# Altium integrated library Infineon_Power_IGBT.IntLib: 226 symbols (part 2 of 8)
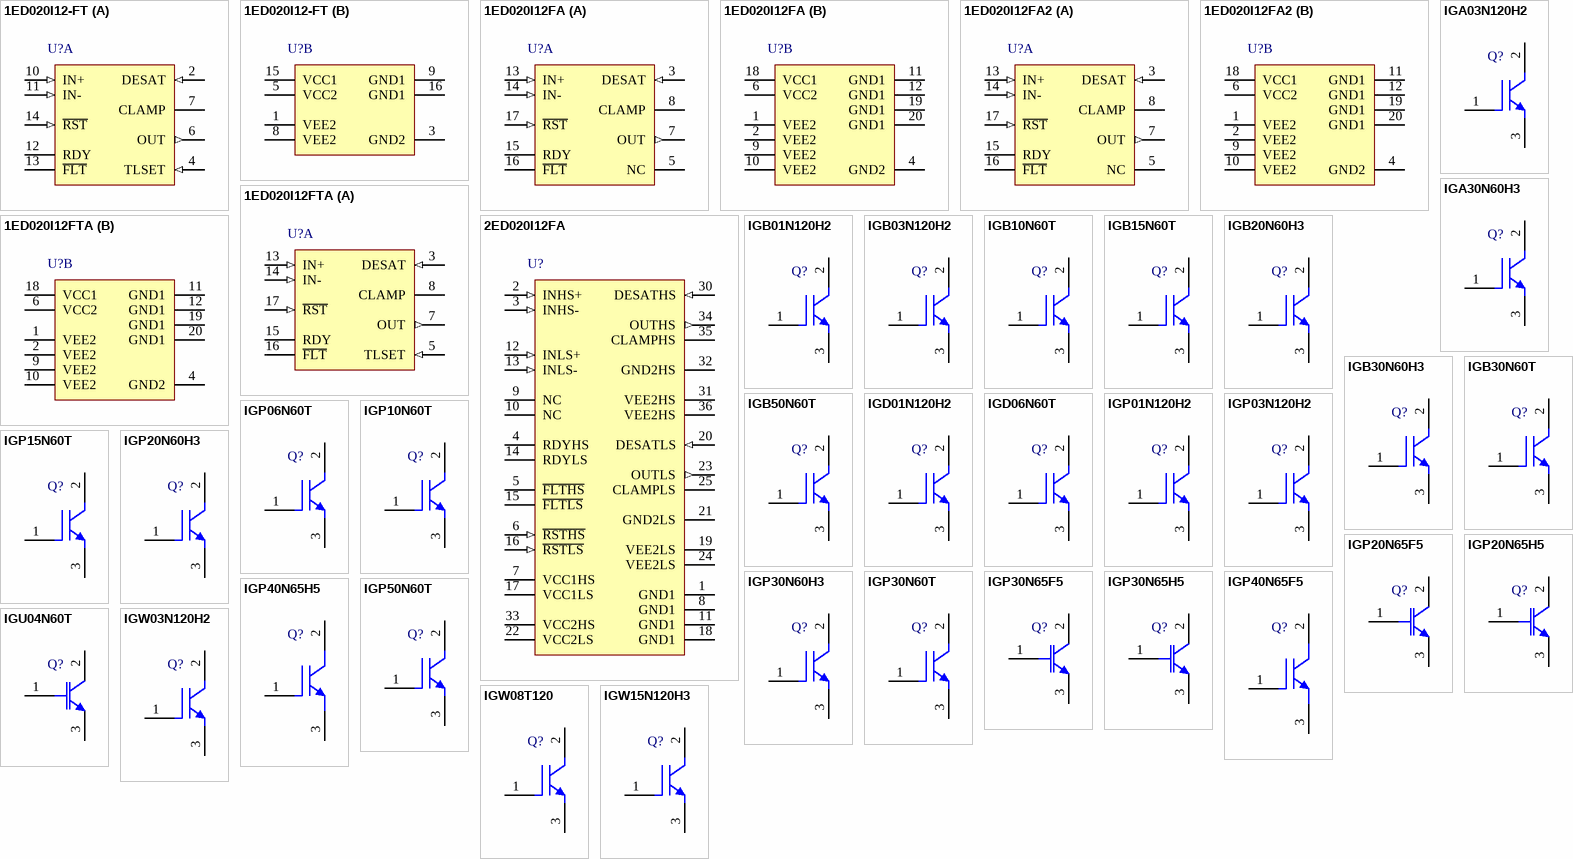
[diagram p6: symbols 1ED020I12-FT to IGW15N120H3]

## IGP50N60T
designator Q?
Low Loss IGBT in TrenchStop and Fieldstop Technology, PG-TO220-3-1, Tube, Green; Manufacturer: Infineon; PartNumber: IGP50N60T; Green: TRUE; IC(max) @ 100 degC: 50 A; IC(max) @ 25 degC: 100 A; Switching Frequency: TRENCHSTOP 2-20kHz; VCE (max): 600 V; VCE(sat) (typ): 1.5 V; DatasheetVersion: Rev. 2.6; PackageVersion: Jul-12; PackageReference: PG-TO220-3-1; PackageDescription: 3-Pin Plastic (Green) Transistor Single Outline Package, 10 x 9.25 mm Body, 2.54 mm Pitch; Supplier 1: Mouser; Supplier Part Number 1: 726-IGP50N60T; Supplier 2: Newark; Supplier Part Number 2: 13T9414; Supplier 3: Farnell; Supplier Part Number 3: 1832355; Supplier 4: Digi-Key; Supplier Part Number 4: IGP50N60T-ND; Halogen-free: TRUE; Packing: Tube; Mounting Technology: Through Hole; ComponentLink1Description: Manufacturer URL; ComponentLink1URL: http://www.infineon.com/; ComponentLink2Description: Datasheet; ComponentLink2URL: http://www.infineon.com/dgdl/IGP_W50N60T_Rev2_6G.pdf?folderId=db3a3043156fd5730115f56849b61941&fileId=db3a30432313ff5e0123b856d0d278c6; ComponentLink3Description: Package Specification; ComponentLink3URL: http://www.infineon.com/dgdl/BTS117_DS_14.pdf?folderId=db3a30431400ef68011421b54e2e0564&fileId=db3a30433a747525013abff8302d549c&location=en.Products.Automotive_ICs.Smart_High-_and_Low-Side_Switches.HITFET___TEMPFET__-_Smart_Low-Side_Switches.DATASHEET.BTS117_DS_14.pdf
footprint INF-PG-TO220-3-1 (FM, 3-Leads, Body 10x4.4mm, Pitch 2.54mm)
pins: 1 G, 2 C, 3 E

## IGU04N60T
designator Q?
Low Loss IGBT: IGBT in TRENCHSTOP(TM) Technology, 600 V VCE, -40 to 175 degC, PG-TO251-3, Tube, Green; Manufacturer: Infineon; PartNumber: IGU04N60T; Eoff (typ): 0.084 mJ; Eon (typ): 0.061 mJ; IC(max) @ 100degrees: 4 A; IC(max) @ 25degrees: 8 A; ICpuls (max): 12 A; P tot (max): 42 W; QGate (typ): 27 nC; td(off) (typ): 164 ns; td(on) (typ): 14 ns; tf (typ): 43 ns; tr (typ): 7 ns; VCE (max): 600 V; VCE(sat) (typ): 1.5 V; DatasheetVersion: Rev. 2.0; PackageReference: PG-TO251-3-21; PackageDescription: 3-Pin Plastic (Green) Transistor Single Outline Package, 6.604 x 2.286 mm Body, 2.286 mm Pitch; Supplier 1: Mouser; Supplier Part Number 1: N/A; Halogen-free: TRUE; Packing: Tube; Mounting Technology: Through Hole; ComponentLink1Description: Manufacturer URL; ComponentLink1URL: http://www.infineon.com/; ComponentLink2Description: Datasheet; ComponentLink2URL: http://www.infineon.com/dgdl/IGU04N60T_2_0.pdf?folderId=db3a3043156fd5730115f56849b61941&fileId=db3a304341e0aed00141e47349ff51f4; ComponentLink3Description: Package Specification; ComponentLink3URL: http://www.infineon.com/dgdl/PG-TO251-3-21-Package_Overview.pdf?folderId=db3a30431c69a49d011cd6eee42f1311&fileId=db3a30431c69a49d011cd71b11e9132f
footprint INF-PG-TO251-3-21 (FM, 3-Leads, Body 6.75x2.45mm, Pitch 2.286mm)
pins: 1 G, 2 C, 3 E

## IGW03N120H2
designator Q?
High Speed 2-Technology IGBT, PG-TO247-3, Tube, Green; Manufacturer: Infineon; PartNumber: IGW03N120H2; Green: TRUE; IC(max) @ 100 degC: 3.9 A; IC(max) @ 25 degC: 9.6 A; Switching Frequency: HighSpeed2 30-100 kHz; VCE (max): 1,200 V; VCE(sat) (typ): 2.2 V; DatasheetVersion: Rev. 2.6; PackageVersion: Rev. 03, 12/2007; PackageReference: PG-TO247-3; PackageDescription: 3-Pin Plastic (Green) Transistor Single Outline Package, Body 20.96 x 15.865 mm, Pitch 5.44 mm; Supplier 1: Mouser; Supplier Part Number 1: 726-IGW03N120H2; Supplier 2: Farnell; Supplier Part Number 2: 1471730; Supplier 3: Digi-Key; Supplier Part Number 3: IGW03N120H2-ND; Halogen-free: FALSE; Packing: Tube; Mounting Technology: Through Hole; ComponentLink1Description: Manufacturer URL; ComponentLink1URL: http://www.infineon.com/; ComponentLink2Description: Datasheet; ComponentLink2URL: http://www.infineon.com/dgdl/IGP_W03N120H2_Rev2_6.pdf?folderId=db3a304412b407950112b408e8c90004&fileId=db3a304412b407950112b427b1713c9d; ComponentLink3Description: Package Specification; ComponentLink3URL: http://www.infineon.com/dgdl/IKW15T120_Rev2G_3.pdf?folderId=db3a304412b407950112b408e8c90004&fileId=db3a304412b407950112b42896343e2d&location=en.Products.IGBTs.IGBT_with_Anti-Parallel_Diode.TRENCHSTOP__IGBT_for_Hard_Switching.DATASHEET.IKW15T120_Rev2G_3.pdf
footprint INF-PG-TO247-3_V (FM, 3-Leads, Body 20.96x15.865mm, Pitch 5.44mm)
pins: 1 G, 2 C, 3 E

## IGW08T120
designator Q?
Low Loss IGBT in TrenchStop and Fieldstop Technology, PG-TO247-3-44, Tube, Green; Manufacturer: Infineon; PartNumber: IGW08T120; Green: TRUE; IC(max) @ 100 degC: 8 A; IC(max) @ 25 degC: 16 A; Switching Frequency: TRENCHSTOP 2-20kHz; VCE (max): 1,200 V; VCE(sat) (typ): 1.7 V; DatasheetVersion: Rev. 2.6; PackageVersion: Rev. 05, 07/2010; PackageReference: PG-TO247-3-44_A; PackageDescription: 3-Pin Plastic (Green) Transistor Single Outline Package, Body 15.915 x 20.95 mm, Pitch 5.44 mm; Supplier 1: Mouser; Supplier Part Number 1: 726-IGW08T120; Supplier 2: Digi-Key; Supplier Part Number 2: IGW08T120-ND; Halogen-free: FALSE; Packing: Tube; Mounting Technology: Through Hole; ComponentLink1Description: Manufacturer URL; ComponentLink1URL: http://www.infineon.com/; ComponentLink2Description: Datasheet; ComponentLink2URL: http://www.infineon.com/dgdl/IGW08T120_Rev2_6G.pdf?folderId=db3a304412b407950112b408e8c90004&fileId=db3a304412b407950112b4281a7b3d64; ComponentLink3Description: Package Specification; ComponentLink3URL: http://www.infineon.com/dgdl/IDW10S120_Rev+2.pdf?folderId=db3a304314dca38901151224afae0c96&fileId=db3a304336724dc40136789691a04aa5
footprint INF-PG-TO247-3-44_A (FM, 3-Leads, Body 15.915x5.02mm, Pitch 5.44mm)
pins: 1 G, 2 C, 3 E

## IGW15N120H3
designator Q?
High Speed IGBT in Trench and Fieldstop Technology, PG-TO-247-3, Tube, Green; Manufacturer: Infineon; PartNumber: IGW15N120H3; Green: TRUE; IC(max) @ 100 degC: 15 A; IC(max) @ 25 degC: 30 A; Switching Frequency: HighSpeed3 20-100kHz; VCE (max): 1,200 V; VCE(sat) (typ): 2.05 V; DatasheetVersion: Rev. 1.1; PackageVersion: Rev. 03, 12/2007; PackageReference: PG-TO247-3; PackageDescription: 3-Pin Plastic (Green) Transistor Single Outline Package, 15.865 x 5.03 mm Body, 5.44 mm Pitch; Supplier 1: Mouser; Supplier Part Number 1: 726-IGW15N120H3; Supplier 2: Farnell; Supplier Part Number 2: 1832344; Supplier 3: Digi-Key; Supplier Part Number 3: IGW15N120H3-ND; Halogen-free: FALSE; Packing: Tube; Mounting Technology: Through Hole; ComponentLink1Description: Manufacturer URL; ComponentLink1URL: http://www.infineon.com/; ComponentLink2Description: Datasheet; ComponentLink2URL: http://www.infineon.com/dgdl/DS_IG15N120H3_1_1_final.pdf?folderId=db3a30431c69a49d011c6f86019b00a1&fileId=db3a304325305e6d012591b22bb86ffb; ComponentLink3Description: Package Specification; ComponentLink3URL: http://www.infineon.com/dgdl/SKW30N60HS_Rev2_2G.pdf?folderId=db3a304412b407950112b408e8c90004&fileId=db3a304412b407950112b42862d43de6
footprint INF-PG-TO-247-3 (FM, 3-Leads, Body 15.865x5.03mm, Pitch 5.44mm)
pins: 1 G, 2 C, 3 E

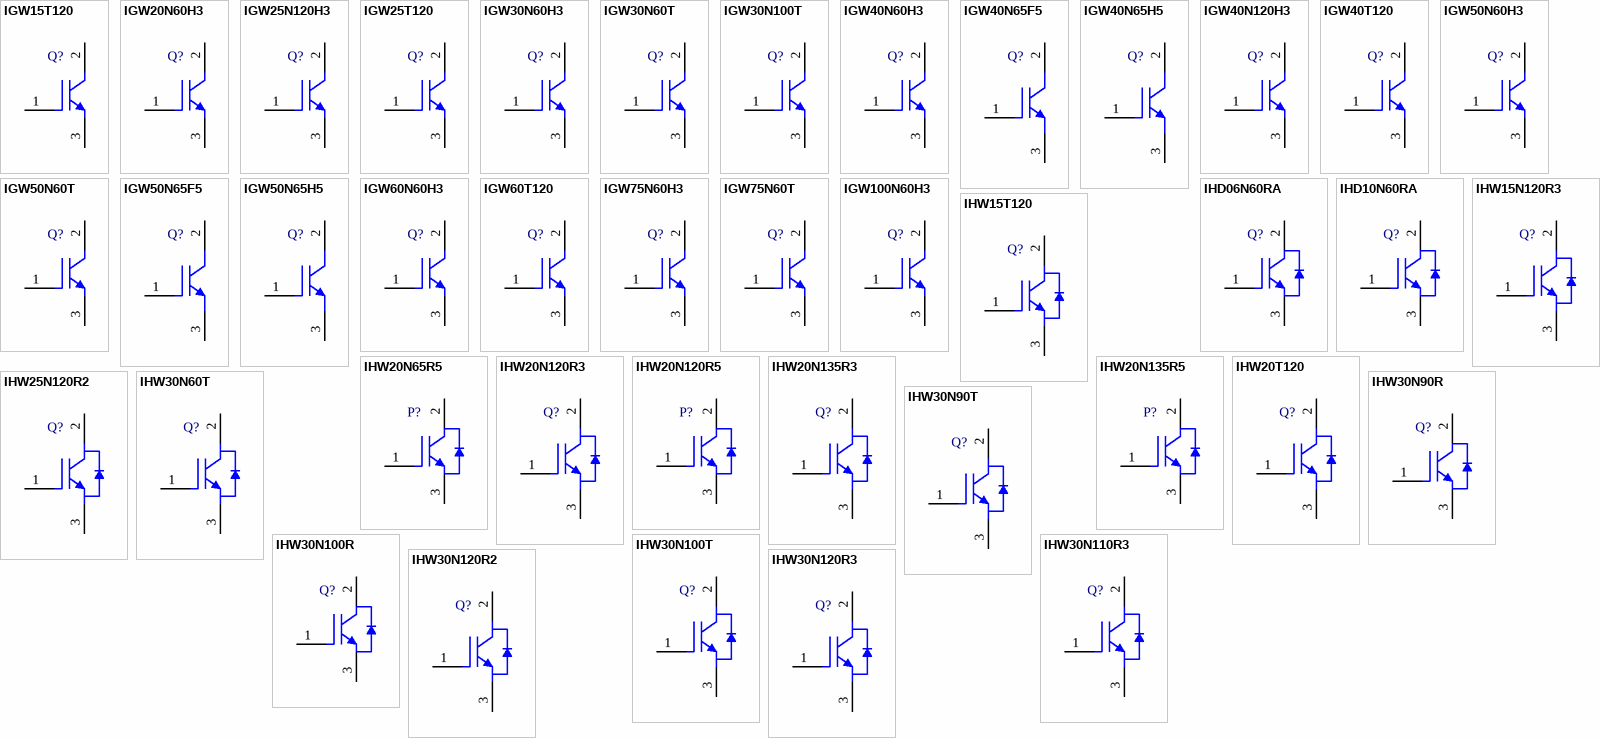
[diagram p1: symbols IGW15T120 to IHW30N120R3]

## IGW15T120
designator Q?
Low Loss IGBT in TrenchStop and Fieldstop Technology, PG-TO247-3-44, Tube, Green; Manufacturer: Infineon; PartNumber: IGW15T120; Green: TRUE; IC(max) @ 100 degC: 15 A; IC(max) @ 25 degC: 30 A; Switching Frequency: TRENCHSTOP 2-20kHz; VCE (max): 1,200 V; VCE(sat) (typ): 1.7 V; DatasheetVersion: Rev. 2.5; PackageVersion: Rev. 05, 07/2010; PackageReference: PG-TO247-3-44_A; PackageDescription: 3-Pin Plastic (Green) Transistor Single Outline Package, Body 15.915 x 20.95 mm, Pitch 5.44 mm; Supplier 1: Mouser; Supplier Part Number 1: 726-IGW15T120; Supplier 2: Newark; Supplier Part Number 2: 13T9417; Supplier 3: Farnell; Supplier Part Number 3: 1832373; Supplier 4: Digi-Key; Supplier Part Number 4: IGW15T120-ND; Halogen-free: FALSE; Packing: Tube; Mounting Technology: Through Hole; ComponentLink1Description: Manufacturer URL; ComponentLink1URL: http://www.infineon.com/; ComponentLink2Description: Datasheet; ComponentLink2URL: http://www.infineon.com/dgdl/IGW15T120_Rev2_5G.pdf?folderId=db3a304412b407950112b408e8c90004&fileId=db3a304412b407950112b4281d403d68; ComponentLink3Description: Package Specification; ComponentLink3URL: http://www.infineon.com/dgdl/IDW10S120_Rev+2.pdf?folderId=db3a304314dca38901151224afae0c96&fileId=db3a304336724dc40136789691a04aa5
footprint INF-PG-TO247-3-44_A (FM, 3-Leads, Body 15.915x5.02mm, Pitch 5.44mm)
pins: 1 G, 2 C, 3 E

## IGW20N60H3
designator Q?
600 V High Speed Switching Series Third Generation, PG-TO247-3-44, Tube, Green; Manufacturer: Infineon; PartNumber: IGW20N60H3; Green: TRUE; IC(max) @ 100 degC: 20 A; IC(max) @ 25 degC: 40 A; Switching Frequency: HighSpeed3 20-100kHz; VCE (max): 600 V; VCE(sat) (typ): 1.95 V; DatasheetVersion: Rev. 1.1; PackageVersion: Rev. 05, 07/2010; PackageReference: PG-TO247-3-44_A; PackageDescription: 3-Pin Plastic (Green) Transistor Single Outline Package, Body 15.915 x 20.95 mm, Pitch 5.44 mm; Supplier 1: Mouser; Supplier Part Number 1: 726-IGW20N60H3; Supplier 2: Digi-Key; Supplier Part Number 2: IGW20N60H3-ND; Halogen-free: FALSE; Packing: Tube; Mounting Technology: Through Hole; ComponentLink1Description: Manufacturer URL; ComponentLink1URL: http://www.infineon.com/; ComponentLink2Description: Datasheet; ComponentLink2URL: http://www.infineon.com/dgdl/IGW20N60H3_Rev1_1G.pdf?folderId=db3a30431c69a49d011c6f86019b00a1&fileId=db3a30432a40a650012a46c4621a2b81; ComponentLink3Description: Package Specification; ComponentLink3URL: http://www.infineon.com/dgdl/IDW10S120_Rev+2.pdf?folderId=db3a304314dca38901151224afae0c96&fileId=db3a304336724dc40136789691a04aa5
footprint INF-PG-TO247-3-44_A (FM, 3-Leads, Body 15.915x5.02mm, Pitch 5.44mm)
pins: 1 G, 2 C, 3 E

## IGW25N120H3
designator Q?
1200 V High Speed Switching Series Third Generation, PG-TO-247-3-44, Tube, Green; Manufacturer: Infineon; PartNumber: IGW25N120H3; Green: TRUE; IC(max) @ 100 degC: 25 A; IC(max) @ 25 degC: 50 A; Switching Frequency: HighSpeed3 20-100kHz; VCE (max): 1,200 V; VCE(sat) (typ): 2.05 V; DatasheetVersion: Rev. 2.1; PackageVersion: Rev. 05, 07/2010; PackageReference: PG-TO247-3-44_A; PackageDescription: 3-Pin Plastic (Green) Transistor Single Outline Package, Body 20.95 x 15.915 mm, Pitch 5.44 mm; Supplier 1: Mouser; Supplier Part Number 1: 726-IGW25N120H3; Supplier 2: Digi-Key; Supplier Part Number 2: IGW25N120H3-ND; Halogen-free: FALSE; Packing: Tube; Mounting Technology: Through Hole; ComponentLink1Description: Manufacturer URL; ComponentLink1URL: http://www.infineon.com/; ComponentLink2Description: Datasheet; ComponentLink2URL: http://www.infineon.com/dgdl/DS_IGW25N120H3_SIC.pdf?folderId=db3a30431c69a49d011c6f86019b00a1&fileId=db3a304325305e6d01258d0f50a8369e; ComponentLink3Description: Package Specification; ComponentLink3URL: http://www.infineon.com/dgdl/IDW50E60_Rev+1.2.pdf?folderId=db3a304314dca38901151224afae0c96&fileId=db3a30433cd75ebf013cf1ddd0fb255a
footprint INF-PG-TO-247-3-44_A (FM, 3-Leads, Body 15.915x5.02mm, Pitch 5.44mm)
pins: 1 G, 2 C, 3 E

## IGW25T120
designator Q?
Low Loss IGBT in TrenchStop and Fieldstop Technology, PG-TO247-3-44, Tube, Green; Manufacturer: Infineon; PartNumber: IGW25T120; Green: TRUE; IC(max) @ 100 degC: 25 A; IC(max) @ 25 degC: 50 A; Switching Frequency: TRENCHSTOP 2-20kHz; VCE (max): 1,200 V; VCE(sat) (typ): 1.7 V; DatasheetVersion: Rev. 2.4; PackageVersion: Rev. 05, 07/2010; PackageReference: PG-TO247-3-44_A; PackageDescription: 3-Pin Plastic (Green) Transistor Single Outline Package, Body 15.915 x 20.95 mm, Pitch 5.44 mm; Supplier 1: Mouser; Supplier Part Number 1: 726-IGW25T120; Supplier 2: Newark; Supplier Part Number 2: 13T9419; Supplier 3: Farnell; Supplier Part Number 3: 1832374; Supplier 4: Digi-Key; Supplier Part Number 4: IGW25T120-ND; Halogen-free: FALSE; Packing: Tube; Mounting Technology: Through Hole; ComponentLink1Description: Manufacturer URL; ComponentLink1URL: http://www.infineon.com/; ComponentLink2Description: Datasheet; ComponentLink2URL: http://www.infineon.com/dgdl/IGW25T120_Rev2_4G.pdf?folderId=db3a304412b407950112b408e8c90004&fileId=db3a304412b407950112b4281fd73d6c; ComponentLink3Description: Package Specification; ComponentLink3URL: http://www.infineon.com/dgdl/IDW10S120_Rev+2.pdf?folderId=db3a304314dca38901151224afae0c96&fileId=db3a304336724dc40136789691a04aa5
footprint INF-PG-TO247-3-44_A (FM, 3-Leads, Body 15.915x5.02mm, Pitch 5.44mm)
pins: 1 G, 2 C, 3 E

## IGW30N60H3
designator Q?
600 V High Speed Switching Series Third Generation, PG-TO247-3-44, Tube, Green; Manufacturer: Infineon; PartNumber: IGW30N60H3; Green: TRUE; IC(max) @ 100 degC: 30 A; IC(max) @ 25 degC: 60 A; Switching Frequency: HighSpeed3 20-100kHz; VCE (max): 600 V; VCE(sat) (typ): 1.95 V; DatasheetVersion: Rev. 1.1; PackageVersion: Rev. 05, 07/2010; PackageReference: PG-TO247-3-44_A; PackageDescription: 3-Pin Plastic (Green) Transistor Single Outline Package, Body 15.915 x 20.95 mm, Pitch 5.44 mm; Supplier 1: Mouser; Supplier Part Number 1: 726-IGW30N60H3; Supplier 2: Digi-Key; Supplier Part Number 2: IGW30N60H3-ND; Halogen-free: FALSE; Packing: Tube; Mounting Technology: Through Hole; ComponentLink1Description: Manufacturer URL; ComponentLink1URL: http://www.infineon.com/; ComponentLink2Description: Datasheet; ComponentLink2URL: http://www.infineon.com/dgdl/IGW30N60H3_Rev1_1G.pdf?folderId=db3a30431c69a49d011c6f86019b00a1&fileId=db3a30432a40a650012a46f9221d2bab; ComponentLink3Description: Package Specification; ComponentLink3URL: http://www.infineon.com/dgdl/IDW10S120_Rev+2.pdf?folderId=db3a304314dca38901151224afae0c96&fileId=db3a304336724dc40136789691a04aa5
footprint INF-PG-TO247-3-44_A (FM, 3-Leads, Body 15.915x5.02mm, Pitch 5.44mm)
pins: 1 G, 2 C, 3 E

## IGW30N60T
designator Q?
Low Loss IGBT in TrenchStop and Fieldstop Technology, PG-TO247-3-44, Tube, Green; Manufacturer: Infineon; PartNumber: IGW30N60T; Green: TRUE; IC(max) @ 100 degC: 30 A; IC(max) @ 25 degC: 60 A; Switching Frequency: TRENCHSTOP 2-20kHz; VCE (max): 600 V; VCE(sat) (typ): 1.5 V; DatasheetVersion: Rev. 2.6; PackageVersion: Rev. 05, 07/2010; PackageReference: PG-TO247-3-44_A; PackageDescription: 3-Pin Plastic (Green) Transistor Single Outline Package, Body 15.915 x 20.95 mm, Pitch 5.44 mm; Supplier 1: Mouser; Supplier Part Number 1: 726-IGW30N60T; Supplier 2: Newark; Supplier Part Number 2: 13T9420; Supplier 3: Farnell; Supplier Part Number 3: 1832354; Supplier 4: Digi-Key; Supplier Part Number 4: IGW30N60T-ND; Halogen-free: FALSE; Packing: Tube; Mounting Technology: Through Hole; ComponentLink1Description: Manufacturer URL; ComponentLink1URL: http://www.infineon.com/; ComponentLink2Description: Datasheet; ComponentLink2URL: http://www.infineon.com/dgdl/IGP_W30N60T_Rev2_6G.pdf?folderId=db3a304412b407950112b408e8c90004&fileId=db3a304412b407950112b4280f6e3d4e; ComponentLink3Description: Package Specification; ComponentLink3URL: http://www.infineon.com/dgdl/IDW10S120_Rev+2.pdf?folderId=db3a304314dca38901151224afae0c96&fileId=db3a304336724dc40136789691a04aa5
footprint INF-PG-TO247-3-44_A (FM, 3-Leads, Body 15.915x5.02mm, Pitch 5.44mm)
pins: 1 G, 2 C, 3 E

## IGW30N100T
designator Q?
IGBT in TrenchStop and Fieldstop Technology, PG-TO247-3-44, Tube, Green; Manufacturer: Infineon; PartNumber: IGW30N100T; Green: TRUE; IC(max) @ 100 degC: 30 A; IC(max) @ 25 degC: 60 A; Switching Frequency: TRENCHSTOP 2-20kHz; VCE (max): 1,000 V; VCE(sat) (typ): 1.55 V; DatasheetVersion: Rev. 2.4; PackageVersion: Rev. 05, 07/2010; PackageReference: PG-TO247-3-44_A; PackageDescription: 3-Pin Plastic (Green) Transistor Single Outline Package, Body 15.915 x 20.95 mm, Pitch 5.44 mm; Supplier 1: Mouser; Supplier Part Number 1: 726-IGW30N100T; Halogen-free: FALSE; Packing: Tube; Mounting Technology: Through Hole; ComponentLink1Description: Manufacturer URL; ComponentLink1URL: http://www.infineon.com/; ComponentLink2Description: Datasheet; ComponentLink2URL: http://www.infineon.com/dgdl/IGW30N100T_2_4.pdf?folderId=db3a30431c69a49d011c6f86019b00a1&fileId=db3a30431c69a49d011c6f864d7500a2; ComponentLink3Description: Package Specification; ComponentLink3URL: http://www.infineon.com/dgdl/IDW10S120_Rev+2.pdf?folderId=db3a304314dca38901151224afae0c96&fileId=db3a304336724dc40136789691a04aa5
footprint INF-PG-TO247-3-44_A (FM, 3-Leads, Body 15.915x5.02mm, Pitch 5.44mm)
pins: 1 G, 2 C, 3 E

## IGW40N60H3
designator Q?
600 V IGBT High Speed Switching Series Third Generation, PG-TO247-3-44, Tube, Green; Manufacturer: Infineon; PartNumber: IGW40N60H3; Green: TRUE; IC(max) @ 100 degC: 40 A; IC(max) @ 25 degC: 80 A; Switching Frequency: HighSpeed3 20-100kHz; VCE (max): 600 V; VCE(sat) (typ): 1.95 V; DatasheetVersion: Rev. 2.1; PackageVersion: Rev. 05, 07/2010; PackageReference: PG-TO247-3-44_A; PackageDescription: 3-Pin Plastic (Green) Transistor Single Outline Package, Body 15.915 x 20.95 mm, Pitch 5.44 mm; Supplier 1: Mouser; Supplier Part Number 1: 726-IGW40N60H3; Supplier 2: Digi-Key; Supplier Part Number 2: IGW40N60H3-ND; Halogen-free: FALSE; Packing: Tube; Mounting Technology: Through Hole; ComponentLink1Description: Manufacturer URL; ComponentLink1URL: http://www.infineon.com/; ComponentLink2Description: Datasheet; ComponentLink2URL: http://www.infineon.com/dgdl/IGW40N60H3_Rev2_1G.pdf?folderId=db3a3043156fd5730115f56849b61941&fileId=db3a3043293a15c401293a9970bb0008; ComponentLink3Description: Package Specification; ComponentLink3URL: http://www.infineon.com/dgdl/IDW10S120_Rev+2.pdf?folderId=db3a304314dca38901151224afae0c96&fileId=db3a304336724dc40136789691a04aa5
footprint INF-PG-TO247-3-44_A (FM, 3-Leads, Body 15.915x5.02mm, Pitch 5.44mm)
pins: 1 G, 2 C, 3 E

## IGW40N65F5
designator Q?
650 V IGBT High Speed Switching Series Fifth Generation, 74 A IC, PG-TO247-3-44, Tube, Green; Manufacturer: Infineon; PartNumber: IGW40N65F5; Green: TRUE; Group: IGBT without Anti-Parallel Diode; IC(max)@ 100degrees: 46 A; IC(max)@ 25degrees: 74 A; ICpuls(max): 120 A; Ptot(max): 255 W; Switching Frequency: TRENCHSTOP5 10-120 kHz; VCE(max): 650 V; VCE(sat)(typ): 1.65 V; DatasheetVersion: Rev. 1.1; PackageVersion: Rev. 03; PackageReference: PG-TO247-3-44; PackageDescription: 3-Pin Plastic (Green) Transistor Single Outline Package, 15.94 x 20.95 mm Body, 5.44 mm Pitch; Supplier 1: Newark; Supplier Part Number 1: 33X0399; Supplier 2: Farnell; Supplier Part Number 2: 2363277; Halogen-free: available; Packing: Tube; Mounting Technology: Through Hole; ComponentLink1Description: Manufacturer URL; ComponentLink1URL: http://www.infineon.com/; ComponentLink2Description: Datasheet; ComponentLink2URL: http://www.infineon.com/dgdl/IGW40N65F5_1_1.pdf?folderId=db3a3043156fd5730115f56849b61941&fileId=db3a30433af5291e013af52fd5b600b6&location=en.Products.IGBTs.IGBT_with_Anti-Parallel_Diode.TRENCHSTOP_5.DATASHEET.IGW40N65F5_1_1.pdf; ComponentLink3Description: Package Specification; ComponentLink3URL: http://www.infineon.com/cms/packages/Leaded_and_through-hole/P-PG-TO247/P-PG-TO247-3-44.html?__locale=en
footprint INF-PG-TO247-3-44 (FM, 3-Leads, Body 5.02x15.94mm, Pitch 5.44mm)
pins: 1 G, 2 C, 3 E

## IGW40N65H5
designator Q?
650 V IGBT High Speed Switching Series Fifth Generation, 74 A IC, PG-TO247-3-44, Tube, Green; Manufacturer: Infineon; PartNumber: IGW40N65H5; Green: TRUE; Group: IGBT without Anti-Parallel Diode; IC(max)@ 100degrees: 46 A; IC(max)@ 25degrees: 74 A; ICpuls(max): 120 A; Ptot(max): 255 W; Switching Frequency: TRENCHSTOP5 10-120 kHz; VCE(max): 650 V; VCE(sat)(typ): 1.65 V; DatasheetVersion: Rev. 1.1; PackageVersion: Rev. 03; PackageReference: PG-TO247-3-44; PackageDescription: 3-Pin Plastic (Green) Transistor Single Outline Package, 15.94 x 20.95 mm Body, 5.44 mm Pitch; Supplier 1: Newark; Supplier Part Number 1: 33X0400; Supplier 2: Farnell; Supplier Part Number 2: 2363278; Halogen-free: available; Packing: Tube; Mounting Technology: Through Hole; ComponentLink1Description: Manufacturer URL; ComponentLink1URL: http://www.infineon.com/; ComponentLink2Description: Datasheet; ComponentLink2URL: http://www.infineon.com/dgdl/IGW40N65F5_1_1.pdf?folderId=db3a3043156fd5730115f56849b61941&fileId=db3a30433af5291e013af52fd5b600b6&location=en.Products.IGBTs.IGBT_with_Anti-Parallel_Diode.TRENCHSTOP_5.DATASHEET.IGW40N65F5_1_1.pdf; ComponentLink3Description: Package Specification; ComponentLink3URL: http://www.infineon.com/cms/packages/Leaded_and_through-hole/P-PG-TO247/P-PG-TO247-3-44.html?__locale=en
footprint INF-PG-TO247-3-44 (FM, 3-Leads, Body 5.02x15.94mm, Pitch 5.44mm)
pins: 1 G, 2 C, 3 E

## IGW40N120H3
designator Q?
1200 V High Speed Switching Series Third Generation, PG-TO247-3-44, Tube, Green; Manufacturer: Infineon; PartNumber: IGW40N120H3; Green: TRUE; IC(max) @ 100 degC: 40 A; IC(max) @ 25 degC: 80 A; Switching Frequency: HighSpeed3 20-100kHz; VCE (max): 1,200 V; VCE(sat) (typ): 2.05 V; DatasheetVersion: Rev. 2.1; PackageVersion: Rev. 05, 07/2010; PackageReference: PG-TO247-3-44_A; PackageDescription: 3-Pin Plastic (Green) Transistor Single Outline Package, Body 15.915 x 20.95 mm, Pitch 5.44 mm; Supplier 1: Mouser; Supplier Part Number 1: 726-IGW40N120H3; Supplier 2: Newark; Supplier Part Number 2: 13T9421; Supplier 3: Farnell; Supplier Part Number 3: 1832346; Supplier 4: Digi-Key; Supplier Part Number 4: IGW40N120H3-ND; Halogen-free: FALSE; Packing: Tube; Mounting Technology: Through Hole; ComponentLink1Description: Manufacturer URL; ComponentLink1URL: http://www.infineon.com/; ComponentLink2Description: Datasheet; ComponentLink2URL: http://www.infineon.com/dgdl/DS_IG40N120H3_2_1.pdf?folderId=db3a30431c69a49d011c6f86019b00a1&fileId=db3a304325305e6d0125921b9364704d; ComponentLink3Description: Package Specification; ComponentLink3URL: http://www.infineon.com/dgdl/IDW10S120_Rev+2.pdf?folderId=db3a304314dca38901151224afae0c96&fileId=db3a304336724dc40136789691a04aa5
footprint INF-PG-TO247-3-44_A (FM, 3-Leads, Body 15.915x5.02mm, Pitch 5.44mm)
pins: 1 G, 2 C, 3 E

## IGW40T120
designator Q?
Low Loss IGBT in TrenchStop and Fieldstop Technology, PG-TO247-3-44, Tube, Green; Manufacturer: Infineon; PartNumber: IGW40T120; Green: TRUE; IC(max) @ 100 degC: 40 A; IC(max) @ 25 degC: 75 A; Switching Frequency: TRENCHSTOP 2-20kHz; VCE (max): 1,200 V; VCE(sat) (typ): 2.3 V; DatasheetVersion: Rev. 2.4; PackageVersion: Rev. 05, 07/2010; PackageReference: PG-TO247-3-44_A; PackageDescription: 3-Pin Plastic (Green) Transistor Single Outline Package, Body 15.915 x 20.95 mm, Pitch 5.44 mm; Supplier 1: Mouser; Supplier Part Number 1: 726-IGW40T120; Supplier 2: Newark; Supplier Part Number 2: 37T8063; Supplier 3: Farnell; Supplier Part Number 3: 1832375; Supplier 4: Digi-Key; Supplier Part Number 4: IGW40T120-ND; Halogen-free: FALSE; Packing: Tube; Mounting Technology: Through Hole; ComponentLink1Description: Manufacturer URL; ComponentLink1URL: http://www.infineon.com/; ComponentLink2Description: Datasheet; ComponentLink2URL: http://www.infineon.com/dgdl/IGW40T120_Rev_2_4G.pdf?folderId=db3a304412b407950112b408e8c90004&fileId=db3a304412b407950112b42822663d70; ComponentLink3Description: Package Specification; ComponentLink3URL: http://www.infineon.com/dgdl/IDW10S120_Rev+2.pdf?folderId=db3a304314dca38901151224afae0c96&fileId=db3a304336724dc40136789691a04aa5
footprint INF-PG-TO247-3-44_A (FM, 3-Leads, Body 15.915x5.02mm, Pitch 5.44mm)
pins: 1 G, 2 C, 3 E

## IGW50N60H3
designator Q?
600 V High Speed Switching Series Third Generation, PG-TO247-3-44, Tube, Green; Manufacturer: Infineon; PartNumber: IGW50N60H3; Green: TRUE; IC(max) @ 100 degC: 50 A; IC(max) @ 25 degC: 100 A; Switching Frequency: HighSpeed3 20-100kHz; VCE (max): 600 V; VCE(sat) (typ): 1.85 V; DatasheetVersion: Rev. 1.2; PackageVersion: Rev. 05, 07/2010; PackageReference: PG-TO247-3-44_A; PackageDescription: 3-Pin Plastic (Green) Transistor Single Outline Package, Body 15.915 x 20.95 mm, Pitch 5.44 mm; Supplier 1: Mouser; Supplier Part Number 1: 726-IGW50N60H3; Supplier 2: Newark; Supplier Part Number 2: 13T9423; Supplier 3: Farnell; Supplier Part Number 3: 1832337; Supplier 4: Digi-Key; Supplier Part Number 4: IGW50N60H3-ND; Halogen-free: FALSE; Packing: Tube; Mounting Technology: Through Hole; ComponentLink1Description: Manufacturer URL; ComponentLink1URL: http://www.infineon.com/; ComponentLink2Description: Datasheet; ComponentLink2URL: http://www.infineon.com/dgdl/IGW50N60H3_Rev1_2G.pdf?folderId=db3a3043156fd5730115f56849b61941&fileId=db3a3043266237920126bc64524041af; ComponentLink3Description: Package Specification; ComponentLink3URL: http://www.infineon.com/dgdl/IDW10S120_Rev+2.pdf?folderId=db3a304314dca38901151224afae0c96&fileId=db3a304336724dc40136789691a04aa5
footprint INF-PG-TO247-3-44_A (FM, 3-Leads, Body 15.915x5.02mm, Pitch 5.44mm)
pins: 1 G, 2 C, 3 E

## IGW50N60T
designator Q?
Low Loss IGBT in TrenchStop and Fieldstop Technology, PG-TO247-3-44, Tube, Green; Manufacturer: Infineon; PartNumber: IGW50N60T; Green: TRUE; IC(max) @ 100 degC: 50 A; IC(max) @ 25 degC: 100 A; Switching Frequency: TRENCHSTOP 2-20kHz; VCE (max): 600 V; VCE(sat) (typ): 1.5 V; DatasheetVersion: Rev. 2.6; PackageVersion: Rev. 05, 07/2010; PackageReference: PG-TO247-3-44_A; PackageDescription: 3-Pin Plastic (Green) Transistor Single Outline Package, Body 15.915 x 20.95 mm, Pitch 5.44 mm; Supplier 1: Mouser; Supplier Part Number 1: 726-IGW50N60T; Supplier 2: Newark; Supplier Part Number 2: 13T9424; Supplier 3: Farnell; Supplier Part Number 3: 1832357; Supplier 4: Digi-Key; Supplier Part Number 4: IGW50N60T-ND; Halogen-free: FALSE; Packing: Tube; Mounting Technology: Through Hole; ComponentLink1Description: Manufacturer URL; ComponentLink1URL: http://www.infineon.com/; ComponentLink2Description: Datasheet; ComponentLink2URL: http://www.infineon.com/dgdl/IGP_W50N60T_Rev2_6G.pdf?folderId=db3a304412b407950112b408e8c90004&fileId=db3a304412b407950112b42814f03d59; ComponentLink3Description: Package Specification; ComponentLink3URL: http://www.infineon.com/dgdl/IDW10S120_Rev+2.pdf?folderId=db3a304314dca38901151224afae0c96&fileId=db3a304336724dc40136789691a04aa5
footprint INF-PG-TO247-3-44_A (FM, 3-Leads, Body 15.915x5.02mm, Pitch 5.44mm)
pins: 1 G, 2 C, 3 E

## IGW50N65F5
designator Q?
650 V IGBT High Speed Switching Series Fifth Generation, 80 A IC, PG-TO247-3-44, Tube, Green; Manufacturer: Infineon; PartNumber: IGW50N65F5; Green: TRUE; Group: IGBT without Anti-Parallel Diode; IC(max)@ 100degrees: 56 A; IC(max)@ 25degrees: 80 A; ICpuls(max): 150 A; Ptot(max): 305 W; Switching Frequency: TRENCHSTOP5 10-120 kHz; VCE(max): 650 V; VCE(sat)(typ): 1.6 V; DatasheetVersion: Rev. 1.1; PackageVersion: Rev. 03; PackageReference: PG-TO247-3-44; PackageDescription: 3-Pin Plastic (Green) Transistor Single Outline Package, 15.94 x 20.95 mm Body, 5.44 mm Pitch; Supplier 1: Mouser; Supplier Part Number 1: N/A; Halogen-free: available; Packing: Tube; Mounting Technology: Through Hole; ComponentLink1Description: Manufacturer URL; ComponentLink1URL: http://www.infineon.com/; ComponentLink2Description: Datasheet; ComponentLink2URL: http://www.infineon.com/dgdl/DS_IGW50N65F5_1_1.pdf?folderId=db3a3043156fd5730115f56849b61941&fileId=db3a30433af5291e013af8ed558f5bc5&location=en.Products.IGBTs.IGBT_with_Anti-Parallel_Diode.TRENCHSTOP_5.DATASHEET.DS_IGW50N65F5_1_1.pdf; ComponentLink3Description: Package Specification; ComponentLink3URL: http://www.infineon.com/cms/packages/Leaded_and_through-hole/P-PG-TO247/P-PG-TO247-3-44.html?__locale=en
footprint INF-PG-TO247-3-44 (FM, 3-Leads, Body 5.02x15.94mm, Pitch 5.44mm)
pins: 1 G, 2 C, 3 E

## IGW50N65H5
designator Q?
650 V IGBT High Speed Switching Series Fifth Generation, 80 A IC, PG-TO247-3-44, Tube, Green; Manufacturer: Infineon; PartNumber: IGW50N65H5; Green: TRUE; Group: IGBT without Anti-Parallel Diode; IC(max)@ 100degrees: 56 A; IC(max)@ 25degrees: 80 A; ICpuls(max): 150 A; Ptot(max): 305 W; Switching Frequency: TRENCHSTOP5 10-120 kHz; VCE(max): 650 V; VCE(sat)(typ): 1.65 V; DatasheetVersion: Rev. 1.1; PackageVersion: Rev. 03; PackageReference: PG-TO247-3-44; PackageDescription: 3-Pin Plastic (Green) Transistor Single Outline Package, 15.94 x 20.95 mm Body, 5.44 mm Pitch; Supplier 1: Mouser; Supplier Part Number 1: N/A; Halogen-free: available; Packing: Tube; Mounting Technology: Through Hole; ComponentLink1Description: Manufacturer URL; ComponentLink1URL: http://www.infineon.com/; ComponentLink2Description: Datasheet; ComponentLink2URL: http://www.infineon.com/dgdl/DS_IGW50N65H5_1_1.pdf?folderId=db3a3043156fd5730115f56849b61941&fileId=db3a30433af5291e013af900f52c5c25&location=en.Products.IGBTs.IGBT_with_Anti-Parallel_Diode.TRENCHSTOP_5.DATASHEET.DS_IGW50N65H5_1_1.pdf; ComponentLink3Description: Package Specification; ComponentLink3URL: http://www.infineon.com/cms/packages/Leaded_and_through-hole/P-PG-TO247/P-PG-TO247-3-44.html?__locale=en
footprint INF-PG-TO247-3-44 (FM, 3-Leads, Body 5.02x15.94mm, Pitch 5.44mm)
pins: 1 G, 2 C, 3 E

## IGW60N60H3
designator Q?
600 V High Speed Switching Series Third Generation, PG-TO247-3-44, Tube, Green; Manufacturer: Infineon; PartNumber: IGW60N60H3; Green: TRUE; IC(max) @ 25 degC: 80 A; Switching Frequency: HighSpeed3 20-100kHz; VCE (max): 600 V; VCE(sat) (typ): 1.85 V; DatasheetVersion: Rev. 1.1; PackageVersion: Rev. 05, 07/2010; PackageReference: PG-TO247-3-44_A; PackageDescription: 3-Pin Plastic (Green) Transistor Single Outline Package, Body 15.915 x 20.95 mm, Pitch 5.44 mm; Halogen-free: FALSE; Packing: Tube; Mounting Technology: Through Hole; ComponentLink1Description: Manufacturer URL; ComponentLink1URL: http://www.infineon.com/; ComponentLink2Description: Datasheet; ComponentLink2URL: http://www.infineon.com/dgdl/IGW60N60H3_1_1.pdf?folderId=db3a3043156fd5730115f56849b61941&fileId=db3a304339dcf4b10139dd4fd82c0023; ComponentLink3Description: Package Specification; ComponentLink3URL: http://www.infineon.com/dgdl/IDW10S120_Rev+2.pdf?folderId=db3a304314dca38901151224afae0c96&fileId=db3a304336724dc40136789691a04aa5
footprint INF-PG-TO247-3-44_A (FM, 3-Leads, Body 15.915x5.02mm, Pitch 5.44mm)
pins: 1 G, 2 C, 3 E

## IGW60T120
designator Q?
Low Loss IGBT in TrenchStop and Fieldstop Technology, PG-TO247-3-44, Tube, Green; Manufacturer: Infineon; PartNumber: IGW60T120; Green: TRUE; IC(max) @ 25 degC: 100 A; Switching Frequency: TRENCHSTOP 2-20kHz; VCE (max): 1,200 V; VCE(sat) (typ): 2.3 V; DatasheetVersion: Rev. 2.4; PackageVersion: Rev. 05, 07/2010; PackageReference: PG-TO247-3-44_A; PackageDescription: 3-Pin Plastic (Green) Transistor Single Outline Package, Body 15.915 x 20.95 mm, Pitch 5.44 mm; Supplier 1: Mouser; Supplier Part Number 1: 726-IGW60T120; Supplier 2: Newark; Supplier Part Number 2: 13T9425; Supplier 3: Farnell; Supplier Part Number 3: 1832376; Supplier 4: Digi-Key; Supplier Part Number 4: IGW60T120-ND; Halogen-free: FALSE; Packing: Tube; Mounting Technology: Through Hole; ComponentLink1Description: Manufacturer URL; ComponentLink1URL: http://www.infineon.com/; ComponentLink2Description: Datasheet; ComponentLink2URL: http://www.infineon.com/dgdl/IGW60T120_Rev2_4G.pdf?folderId=db3a304412b407950112b408e8c90004&fileId=db3a304412b407950112b428250e3d74; ComponentLink3Description: Package Specification; ComponentLink3URL: http://www.infineon.com/dgdl/IDW10S120_Rev+2.pdf?folderId=db3a304314dca38901151224afae0c96&fileId=db3a304336724dc40136789691a04aa5
footprint INF-PG-TO247-3-44_A (FM, 3-Leads, Body 15.915x5.02mm, Pitch 5.44mm)
pins: 1 G, 2 C, 3 E

## IGW75N60H3
designator Q?
600 V High Speed Switching Series Third Generation, PG-TO247-3-44, Tube, Green; Manufacturer: Infineon; PartNumber: IGW75N60H3; Green: TRUE; IC(max) @ 100 degC: 75 A; IC(max) @ 25 degC: 140 A; Switching Frequency: HighSpeed3 20-100kHz; VCE (max): 600 V; VCE(sat) (typ): 1.85 V; DatasheetVersion: Rev. 1.2; PackageVersion: Rev. 05, 07/2010; PackageReference: PG-TO247-3-44_A; PackageDescription: 3-Pin Plastic (Green) Transistor Single Outline Package, Body 15.915 x 20.95 mm, Pitch 5.44 mm; Supplier 1: Digi-Key; Supplier Part Number 1: IGW75N60H3-ND; Halogen-free: FALSE; Packing: Tube; Mounting Technology: Through Hole; ComponentLink1Description: Manufacturer URL; ComponentLink1URL: http://www.infineon.com/; ComponentLink2Description: Datasheet; ComponentLink2URL: http://www.infineon.com/dgdl/IGW75N60H3_Rev1_2.pdf?folderId=db3a3043156fd5730115f56849b61941&fileId=db3a3043353cc43601353d460a7a0098; ComponentLink3Description: Package Specification; ComponentLink3URL: http://www.infineon.com/dgdl/IDW10S120_Rev+2.pdf?folderId=db3a304314dca38901151224afae0c96&fileId=db3a304336724dc40136789691a04aa5
footprint INF-PG-TO247-3-44_A (FM, 3-Leads, Body 15.915x5.02mm, Pitch 5.44mm)
pins: 1 G, 2 C, 3 E

## IGW75N60T
designator Q?
Low Loss IGBT in TrenchStop and Fieldstop Technology, PG-TO247-3-44, Tube, Green; Manufacturer: Infineon; PartNumber: IGW75N60T; Green: TRUE; IC(max) @ 100 degC: 75 A; IC(max) @ 25 degC: 150 A; Switching Frequency: TRENCHSTOP 2-20kHz; VCE (max): 600 V; VCE(sat) (typ): 1.5 V; DatasheetVersion: Rev. 2.5; PackageVersion: Rev. 05, 07/2010; PackageReference: PG-TO247-3-44_A; PackageDescription: 3-Pin Plastic (Green) Transistor Single Outline Package, Body 15.915 x 20.95 mm, Pitch 5.44 mm; Supplier 1: Mouser; Supplier Part Number 1: 726-IGW75N60T; Supplier 2: Newark; Supplier Part Number 2: 13T9426; Supplier 3: Farnell; Supplier Part Number 3: 1832358; Supplier 4: Digi-Key; Supplier Part Number 4: IGW75N60T-ND; Halogen-free: FALSE; Packing: Tube; Mounting Technology: Through Hole; ComponentLink1Description: Manufacturer URL; ComponentLink1URL: http://www.infineon.com/; ComponentLink2Description: Datasheet; ComponentLink2URL: http://www.infineon.com/dgdl/IGW75N60T_Rev2_5G.pdf?folderId=db3a304412b407950112b408e8c90004&fileId=db3a304412b407950112b42817e13d60; ComponentLink3Description: Package Specification; ComponentLink3URL: http://www.infineon.com/dgdl/IDW10S120_Rev+2.pdf?folderId=db3a304314dca38901151224afae0c96&fileId=db3a304336724dc40136789691a04aa5
footprint INF-PG-TO247-3-44_A (FM, 3-Leads, Body 15.915x5.02mm, Pitch 5.44mm)
pins: 1 G, 2 C, 3 E

## IGW100N60H3
designator Q?
600 V High Speed Switching Series Third Generation, PG-TO247-3-44, Tube, Green; Manufacturer: Infineon; PartNumber: IGW100N60H3; Green: TRUE; IC(max) @ 100 degC: 120 A; IC(max) @ 25 degC: 140 A; Switching Frequency: HighSpeed3 20-100kHz; VCE (max): 600 V; VCE(sat) (typ): 1.85 V; DatasheetVersion: Rev. 1.2; PackageVersion: Rev. 05, 07/2010; PackageReference: PG-TO247-3-44_A; PackageDescription: 3-Pin Plastic (Green) Transistor Single Outline Package, Body 15.915 x 20.95 mm, Pitch 5.44 mm; Halogen-free: FALSE; Packing: Tube; Mounting Technology: Through Hole; ComponentLink1Description: Manufacturer URL; ComponentLink1URL: http://www.infineon.com/; ComponentLink2Description: Datasheet; ComponentLink2URL: http://www.infineon.com/dgdl/IGW100N60H3_1_2.pdf?folderId=db3a3043156fd5730115f56849b61941&fileId=db3a30433a747525013a9270ef6b17cb; ComponentLink3Description: Package Specification; ComponentLink3URL: http://www.infineon.com/dgdl/IDW10S120_Rev+2.pdf?folderId=db3a304314dca38901151224afae0c96&fileId=db3a304336724dc40136789691a04aa5
footprint INF-PG-TO247-3-44_A (FM, 3-Leads, Body 15.915x5.02mm, Pitch 5.44mm)
pins: 1 G, 2 C, 3 E

## IHD06N60RA
designator Q?
600 V Soft Switching Series Qualified to Automotive Standard AECQ101, PG-TO252-3-1, Reel, Green; Manufacturer: Infineon; PartNumber: IHD06N60RA; Green: TRUE; IC(max) @ 100 degC: 6 A; IC(max) @ 25 degC: 12 A; Switching Frequency: RC Soft Switching Series 8-60 kHz; VCE (max): 600 V; VCE(sat) (typ): 1.45 V; DatasheetVersion: Rev. 2.1; PackageVersion: Rev. 2.2, 04/2007; PackageReference: PG-TO252-3-1_A; PackageDescription: 3-Pin Plastic (Green) Transistor Single Outline Package, Body 6.565 x 6.1 mm, Pitch 2.28 mm; Supplier 1: Mouser; Supplier Part Number 1: 726-IHD06N60RA; Supplier 2: Digi-Key; Supplier Part Number 2: IHD06N60RA-ND; Halogen-free: FALSE; Packing: Reel; Mounting Technology: Surface Mount; ComponentLink1Description: Manufacturer URL; ComponentLink1URL: http://www.infineon.com/; ComponentLink2Description: Datasheet; ComponentLink2URL: http://www.infineon.com/dgdl/DS_IHD06N60RA_2_1.pdf?folderId=db3a30431c69a49d011c6f86019b00a1&fileId=db3a30431c69a49d011c8e7a2b80046f; ComponentLink3Description: Package Specification; ComponentLink3URL: http://www.infineon.com/dgdl/IDD03E60Grev2_2.pdf?folderId=db3a304412b407950112b438b4176b74&fileId=db3a304412b407950112b438b49f6b75
footprint INF-PG-TO252-3-1_A_N (DPAK, 3-Leads, Body 6.565x6.1mm, Pitch 2.28mm, IPC Medium Density)
footprint INF-PG-TO252-3-1_A_L (DPAK, 3-Leads, Body 6.565x6.1mm, Pitch 2.28mm, IPC High Density)
footprint INF-PG-TO252-3-1_A_M (DPAK, 3-Leads, Body 6.565x6.1mm, Pitch 2.28mm, IPC Low Density)
pins: 1 G, 2 C, 3 E

## IHD10N60RA
designator Q?
600 V Soft Switching Series Qualified to Automotive Standard AECQ101, PG-TO252-3-1, Reel, Green; Manufacturer: Infineon; PartNumber: IHD10N60RA; Green: TRUE; IC(max) @ 100 degC: 10 A; IC(max) @ 25 degC: 20 A; Switching Frequency: RC Soft Switching Series 8-60 kHz; VCE (max): 600 V; VCE(sat) (typ): 1.45 V; DatasheetVersion: Rev. 2.1; PackageVersion: Rev. 2.2, 04/2007; PackageReference: PG-TO252-3-1_A; PackageDescription: 3-Pin Plastic (Green) Transistor Single Outline Package, Body 6.565 x 6.1 mm, Pitch 2.28 mm; Supplier 1: Mouser; Supplier Part Number 1: 726-IHD10N60RA; Supplier 2: Digi-Key; Supplier Part Number 2: IHD10N60RA-ND; Halogen-free: FALSE; Packing: Reel; Mounting Technology: Surface Mount; ComponentLink1Description: Manufacturer URL; ComponentLink1URL: http://www.infineon.com/; ComponentLink2Description: Datasheet; ComponentLink2URL: http://www.infineon.com/dgdl/DS_IHD10N60RA_2_1.pdf?folderId=db3a30431c69a49d011c6f86019b00a1&fileId=db3a30431c69a49d011c8e7bec980475; ComponentLink3Description: Package Specification; ComponentLink3URL: http://www.infineon.com/dgdl/IDD03E60Grev2_2.pdf?folderId=db3a304412b407950112b438b4176b74&fileId=db3a304412b407950112b438b49f6b75
footprint INF-PG-TO252-3-1_A_N (DPAK, 3-Leads, Body 6.565x6.1mm, Pitch 2.28mm, IPC Medium Density)
footprint INF-PG-TO252-3-1_A_L (DPAK, 3-Leads, Body 6.565x6.1mm, Pitch 2.28mm, IPC High Density)
footprint INF-PG-TO252-3-1_A_M (DPAK, 3-Leads, Body 6.565x6.1mm, Pitch 2.28mm, IPC Low Density)
pins: 1 G, 2 C, 3 E

## IHW15N120R3
designator Q?
1200 V Reverse Conducting IGBT with Monolithic Body Diode, 30 A IC, -40 to 175 degC, PG-TO247-3-44, Tube, Green; Manufacturer: Infineon; PartNumber: IHW15N120R3; Eoff (typ): 0.7 mJ; Green: TRUE; IC(max) @ 100degrees: 15 A; IC(max) @ 25degrees: 30 A; ICpuls (max): 45 A; Ptot (max): 254 W; QGate (typ): 165 nC; Switching Frequency: RC Soft Switching Series 8-60 kHz; td(off) (typ): 300 ns; tf (typ): 46 ns; VCE (max): 1,200 V; VCE(sat) (typ): 1.48 V; VF (typ): 1.55 V; DatasheetVersion: Rev. 2.3; PackageVersion: Rev. 03; PackageReference: PG-TO247-3-44; PackageDescription: 3-Pin Plastic (Green) Transistor Single Outline Package, 15.94 x 20.95 mm Body, 5.44 mm Pitch; Supplier 1: Mouser; Supplier Part Number 1: 726-IHW15N120R3; Supplier 2: Newark; Supplier Part Number 2: 13T9427; Supplier 3: Farnell; Supplier Part Number 3: 1832348; Supplier 4: Digi-Key; Supplier Part Number 4: IHW15N120R3-ND; Halogen-free: available; IF (max): 30 A; IFpuls (max): 45 A; Packing: Tube; Mounting Technology: Through Hole; ComponentLink1Description: Manufacturer URL; ComponentLink1URL: http://www.infineon.com/; ComponentLink2Description: Datasheet; ComponentLink2URL: http://www.infineon.com/dgdl/DS_IHW15N120R3_2_3.pdf?folderId=db3a30431c69a49d011c6f86019b00a1&fileId=db3a304320d39d590121814cb068197b&location=en.Products.IGBTs.IGBT_with_Anti-Parallel_Diode.TRENCHSTOP__IGBT_for_Soft_Switching.DATASHEET.DS_IHW15N120R3_2_3.pdf; ComponentLink3Description: Package Specification; ComponentLink3URL: http://www.infineon.com/cms/packages/Leaded_and_through-hole/P-PG-TO247/P-PG-TO247-3-44.html?__locale=en
footprint INF-PG-TO247-3-44 (FM, 3-Leads, Body 5.02x15.94mm, Pitch 5.44mm)
pins: 1 G, 2 C, 3 E

## IHW15T120
designator Q?
1200 V IGBT in TrenchStop and Fieldstop Technology with Soft, Fast Recovery Anti-Parallel EmCon HE Diode, 30 A IC, -40 to 150 degC, PG-TO247-3-44, Tube, Green; Manufacturer: Infineon; PartNumber: IHW15T120; Eoff (typ): 1.4 mJ; Eon (typ): 1.3 mJ; Green: TRUE; IC(max) @ 100degrees: 15 A; IC(max) @ 25degrees: 30 A; ICpuls (max): 45 A; IF (max): 23 A; IFpuls (max): 36 A; Irrm (typ): 13.3 A; Ptot (max): 113 W; QGate (typ): 85 nC; Qrr (typ): 950 nC; Switching Frequency: RC Soft Switching Series 8-60 kHz; td(off) (typ): 520 ns; td(on) (typ): 50 ns; tf (typ): 60 ns; tr (typ): 30 ns; VCE (max): 1,200 V; VCE(sat) (typ): 1.7 V; DatasheetVersion: Rev. 2.3; PackageVersion: Rev. 03; PackageReference: PG-TO247-3-44; PackageDescription: 3-Pin Plastic (Green) Transistor Single Outline Package, 15.94 x 20.95 mm Body, 5.44 mm Pitch; Supplier 1: Mouser; Supplier Part Number 1: 726-IHW15T120; Supplier 2: Newark; Supplier Part Number 2: 13T9428; Supplier 3: Digi-Key; Supplier Part Number 3: IHW15T120-ND; Halogen-free: available; Packing: Tube; VF (typ): 1.7 V; Mounting Technology: Through Hole; ComponentLink1Description: Manufacturer URL; ComponentLink1URL: http://www.infineon.com/; ComponentLink2Description: Datasheet; ComponentLink2URL: http://www.infineon.com/dgdl/IHW15T120_D09_Rev2_3G.pdf?folderId=db3a304412b407950112b408e8c90004&fileId=db3a304412b407950112b42728313bbf&location=en.Products.IGBTs.IGBT_with_Anti-Parallel_Diode.TRENCHSTOP__IGBT_for_Soft_Switching.DATASHEET.IHW15T120_D09_Rev2_3G.pdf; ComponentLink3Description: Package Specification; ComponentLink3URL: http://www.infineon.com/cms/packages/Leaded_and_through-hole/P-PG-TO247/P-PG-TO247-3-44.html?__locale=en
footprint INF-PG-TO247-3-44 (FM, 3-Leads, Body 5.02x15.94mm, Pitch 5.44mm)
pins: 1 G, 2 C, 3 E

## IHW20N65R5
designator P?
Reverse Conducting IGBT with Monolithic Body Diode, 650 V VCE, PG-TO247-3, Tube, Green; Manufacturer: Infineon; PartNumber: IHW20N65R5; Eoff (typ): 0.07 mJ; Eon (typ): 0.3 mJ; Green: TRUE; IC(max) @ 100degrees: 20 A; IC(max) @ 25degrees: 40 A; ICpuls (max): 60 A; P tot (max): 150 W; QGate (typ): 97 nC; Qrr (typ): 1 uC; td(off) (typ): 250 ns; td(on) (typ): 24 ns; tf (typ): 5 ns; tr (typ): 8 ns; VCE (max): 650 V; VCE(sat) (typ): 1.35 V; VF (typ): 1.7 V; DatasheetVersion: Rev. 1.2; PackageVersion: Rev. 05, 07/2010; PackageReference: PG-TO247-3-44_A; PackageDescription: 3-Pin Plastic (Green) Transistor Single Outline Package, 15.915 x 20.95 mm Body, 5.44 mm Pitch; Halogen-free: TRUE; IF (max): 40 A; IFpuls (max): 60 A; Irrm (typ): 20 A; Packing: Tube; Mounting Technology: Through Hole; ComponentLink1Description: Manufacturer URL; ComponentLink1URL: http://www.infineon.com/; ComponentLink2Description: Datasheet; ComponentLink2URL: http://www.infineon.com/dgdl/DS_IHW20N65R5_1_2.pdf?folderId=db3a3043156fd5730115f56849b61941&fileId=5546d461464245d30146ae1140b900d8; ComponentLink3Description: Package Specification; ComponentLink3URL: http://www.infineon.com/dgdl/IJW120R070T1-final+datasheet+2+0.pdf?folderId=db3a304341e0aed0014203508c870e38&fileId=db3a304341e0aed0014203597c420ec5
footprint INF-PG-TO247-3-44_A (FM, 3-Leads, Body 15.915x5.02mm, Pitch 5.44mm)
pins: 1 G, 2 C, 3 E

## IHW20N120R3
designator Q?
1200 V Reverse Conducting IGBT with Monolithic Body Diode, 40 A IC, -40 to 175 degC, PG-TO247-3-44, Tube, Green; Manufacturer: Infineon; PartNumber: IHW20N120R3; Eoff (typ): 0.95 mJ; Green: TRUE; IC(max) @ 100degrees: 20 A; IC(max) @ 25degrees: 40 A; ICpuls (max): 60 A; Ptot (max): 310 W; QGate (typ): 211 nC; Switching Frequency: RC Soft Switching Series 8-60 kHz; td(off) (typ): 387 ns; tf (typ): 25 ns; VCE (max): 1,200 V; VCE(sat) (typ): 1.48 V; VF (typ): 1.55 V; DatasheetVersion: Rev. 2.5; PackageVersion: Rev. 03; PackageReference: PG-TO247-3-44; PackageDescription: 3-Pin Plastic (Green) Transistor Single Outline Package, 15.94 x 20.95 mm Body, 5.44 mm Pitch; Supplier 1: Mouser; Supplier Part Number 1: 726-IHW20N120R3; Supplier 2: Newark; Supplier Part Number 2: 13T9429; Supplier 3: Farnell; Supplier Part Number 3: 1832349; Supplier 4: Digi-Key; Supplier Part Number 4: IHW20N120R3-ND; Halogen-free: TRUE; IF (max): 40 A; IFpuls (max): 60 A; Packing: Tube; Mounting Technology: Through Hole; ComponentLink1Description: Manufacturer URL; ComponentLink1URL: http://www.infineon.com/; ComponentLink2Description: Datasheet; ComponentLink2URL: http://www.infineon.com/dgdl/DS_IHW20N120R3_2_5.pdf?folderId=db3a30431c69a49d011c6f86019b00a1&fileId=db3a304320d39d590121819187cb19a8&location=en.Products.IGBTs.IGBT_with_Anti-Parallel_Diode.TRENCHSTOP__IGBT_for_Soft_Switching.DATASHEET.DS_IHW20N120R3_2_5.pdf; ComponentLink3Description: Package Specification; ComponentLink3URL: http://www.infineon.com/cms/packages/Leaded_and_through-hole/P-PG-TO247/P-PG-TO247-3-44.html?__locale=en
footprint INF-PG-TO247-3-44 (FM, 3-Leads, Body 5.02x15.94mm, Pitch 5.44mm)
pins: 1 G, 2 C, 3 E

## IHW20N120R5
designator P?
Reverse Conducting IGBT with Monolithic Body Diode, 1200 V VCE, PG-TO247-3 , Tube, Green; Manufacturer: Infineon; PartNumber: IHW20N120R5; Eoff (typ): 0.75 mJ; Green: TRUE; IC(max) @ 100degrees: 20 A; IC(max) @ 25degrees: 40 A; ICpuls (max): 60 A; P tot (max): 288 W; QGate (typ): 170 nC; td(off) (typ): 260 ns; tf (typ): 50 ns; VCE (max): 1,200 V; VCE(sat) (typ): 1.55 V; VF (typ): 1.6 V; DatasheetVersion: Rev. 1.1; PackageVersion: Rev. 05, 07/2010; PackageReference: PG-TO247-3-44_A; PackageDescription: 3-Pin Plastic (Green) Transistor Single Outline Package, 15.915 x 20.95 mm Body, 5.44 mm Pitch; Halogen-free: TRUE; IF (max): 40 A; IFpuls (max): 60 A; Mounting Technology: Through Hole; ComponentLink1Description: Manufacturer URL; ComponentLink1URL: http://www.infineon.com/; ComponentLink2Description: Datasheet; ComponentLink2URL: http://www.infineon.com/dgdl/DS_IHW20N120R5_1_1.pdf?folderId=db3a3043156fd5730115f56849b61941&fileId=5546d4614546039901458dd19d89437c; ComponentLink3Description: Package Specification; ComponentLink3URL: http://www.infineon.com/dgdl/IJW120R070T1-final+datasheet+2+0.pdf?folderId=db3a304341e0aed0014203508c870e38&fileId=db3a304341e0aed0014203597c420ec5
footprint INF-PG-TO247-3-44_A (FM, 3-Leads, Body 15.915x5.02mm, Pitch 5.44mm)
pins: 1 G, 2 C, 3 E

## IHW20N135R3
designator Q?
1350 V Reverse Conducting IGBT with Monolithic Body Diode, 40 A IC, -40 to 175 degC, PG-TO247-3-44, Tube, Green; Manufacturer: Infineon; PartNumber: IHW20N135R3; Eoff (typ): 1.3 mJ; Green: TRUE; IC(max) @ 100degrees: 20 A; IC(max) @ 25degrees: 40 A; ICpuls (max): 60 A; Ptot (max): 310 W; QGate (typ): 195 nC; Switching Frequency: RC Soft Switching Series 8-60 kHz; td(off) (typ): 335 ns; tf (typ): 50 ns; VCE (max): 1,350 V; VCE(sat) (typ): 1.6 V; DatasheetVersion: Rev. 2.1; PackageVersion: Rev. 03; PackageReference: PG-TO247-3-44; PackageDescription: 3-Pin Plastic (Green) Transistor Single Outline Package, 15.94 x 20.95 mm Body, 5.44 mm Pitch; Supplier 1: Digi-Key; Supplier Part Number 1: IHW20N135R3-ND; Halogen-free: TRUE; IF (max): 40 A; IFpuls (max): 60 A; Packing: Tube; VF (typ): 1.6 V; Mounting Technology: Through Hole; ComponentLink1Description: Manufacturer URL; ComponentLink1URL: http://www.infineon.com/; ComponentLink2Description: Datasheet; ComponentLink2URL: http://www.infineon.com/dgdl/DS_IHW20N135R3.pdf?folderId=db3a3043156fd5730115f56849b61941&fileId=db3a30433162923a0131897157e40e46&location=en.Products.IGBTs.IGBT_with_Anti-Parallel_Diode.TRENCHSTOP__IGBT_for_Soft_Switching.DATASHEET.DS_IHW20N135R3.pdf; ComponentLink3Description: Package Specification; ComponentLink3URL: http://www.infineon.com/cms/packages/Leaded_and_through-hole/P-PG-TO247/P-PG-TO247-3-44.html?__locale=en
footprint INF-PG-TO247-3-44 (FM, 3-Leads, Body 5.02x15.94mm, Pitch 5.44mm)
pins: 1 G, 2 C, 3 E

## IHW20N135R5
designator P?
Reverse Conducting IGBT with Monolithic Body Diode, 1350 V VCE, PG-TO247-3, Tube, Green; Manufacturer: Infineon; PartNumber: IHW20N135R5; Eoff (typ): 0.95 mJ; Green: TRUE; IC(max) @ 100degrees: 20 A; IC(max) @ 25degrees: 40 A; ICpuls (max): 60 A; P tot (max): 288 W; QGate (typ): 170 nC; td(off) (typ): 235 ns; tf (typ): 50 ns; VCE (max): 1,350 V; VCE(sat) (typ): 1.65 V; DatasheetVersion: Rev. 1.1; PackageVersion: Rev. 05, 07/2010; PackageReference: PG-TO247-3-44_A; PackageDescription: 3-Pin Plastic (Green) Transistor Single Outline Package, 15.915 x 20.95 mm Body, 5.44 mm Pitch; Supplier 1: Mouser; Supplier Part Number 1: N/A; Halogen-free: TRUE; IF (max): 40 A; IFpuls (max): 60 A; Packing: Tube; VF (typ): 1.65 V; Mounting Technology: Through Hole; ComponentLink1Description: Manufacturer URL; ComponentLink1URL: http://www.infineon.com/; ComponentLink2Description: Datasheet; ComponentLink2URL: http://www.infineon.com/dgdl/DS_IH20N135R5_1_1.pdf?folderId=db3a3043156fd5730115f56849b61941&fileId=db3a304343bec32d0143d3809a56321c; ComponentLink3Description: Package Specification; ComponentLink3URL: http://www.infineon.com/dgdl/IJW120R070T1-final+datasheet+2+0.pdf?folderId=db3a304341e0aed0014203508c870e38&fileId=db3a304341e0aed0014203597c420ec5
footprint INF-PG-TO247-3-44_A (FM, 3-Leads, Body 15.915x5.02mm, Pitch 5.44mm)
pins: 1 G, 2 C, 3 E